# Altium footprint library CONN 640455-2.PcbLib: 1 footprints
Each footprint in its own frame and in the unit in brackets; x right, y up, seen from the top. Pads: shape width x height; smd on the part's side, far side on the other; paste and mask are expansions set on the pad; w line width, h text height; cw(c..) or ccw(c..) is an arc to the next point about the centre after c.
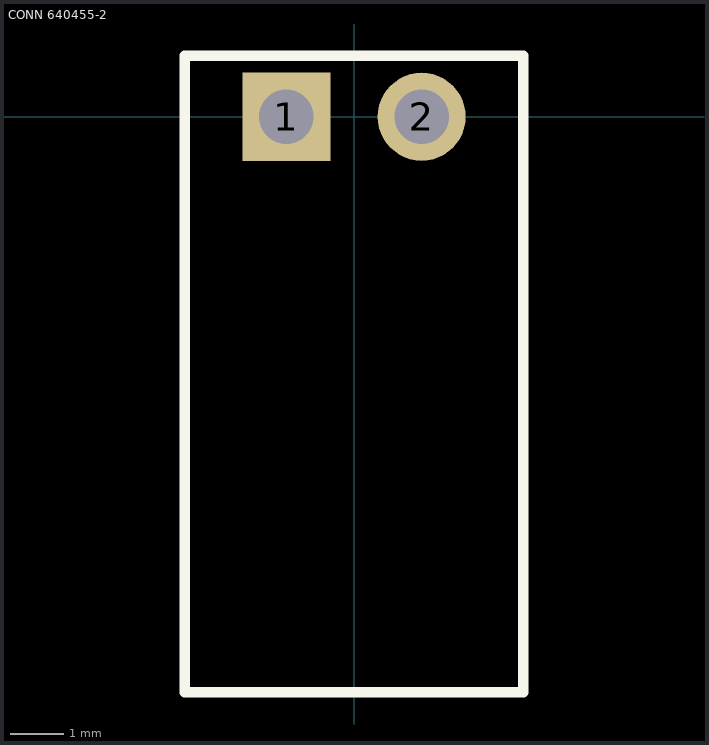
[diagram p0: the footprint, top view; thin cyan lines are the x and y axes]

## CONN 640455-2 [mil]
pads (2):
  rect 65x65 hole 40: 1(-50,0)
  round 65 hole 40: 2(50,0)
Top Overlay:
  lines w7.87: -125,-425 -125,45 125,45 125,-425 -125,-425
3D body: height 252.5, standoff -142.5, extent -99.99,-419.99 100.01,15